# Altium footprint library pin4header.PcbLib: 1 footprints
Each footprint in its own frame and in the unit in brackets; x right, y up, seen from the top. Pads: shape width x height; smd on the part's side, far side on the other; paste and mask are expansions set on the pad; w line width, h text height; cw(c..) or ccw(c..) is an arc to the next point about the centre after c.
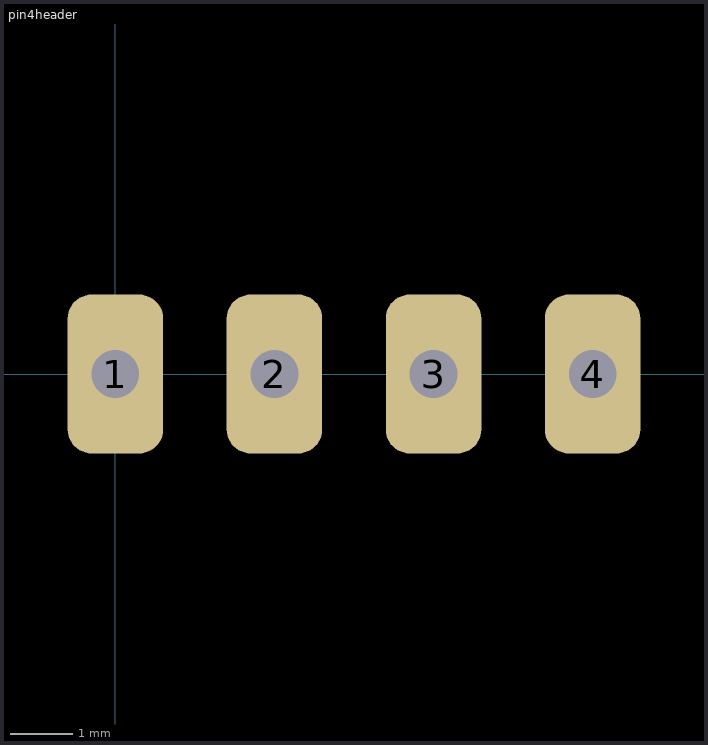
[diagram p0: the footprint, top view; thin cyan lines are the x and y axes]

## pin4header [mil]
pads (4):
  rrect50% 60x100 hole 30: 1(0,0) 2(100,0) 3(200,0) 4(300,0)
3D body: height 98.43, standoff 0, extent -50,-50 350,50